# EAGLE library part CON_PINHD-1X8 (library akita)
PIN HEADER
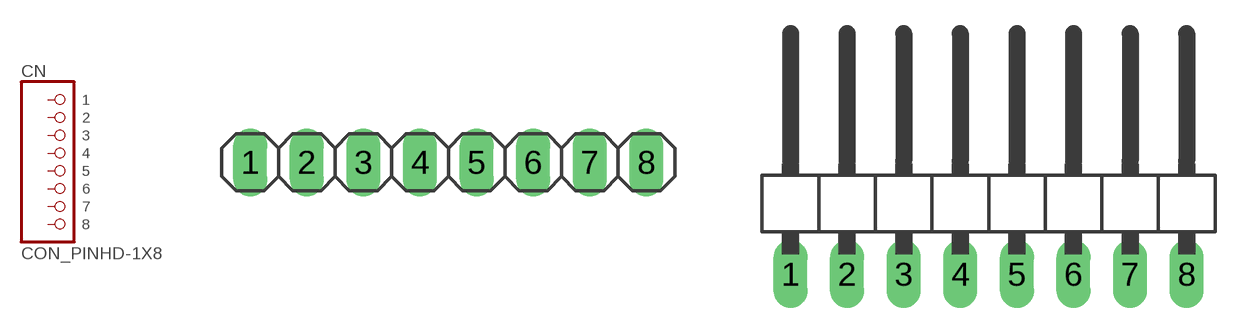
[diagram p11: symbol with the pads of 1X08; footprints 1X08, 1X08/90]

Designator prefix CN

## CON_PINHD-1X8  [1X08]
1  1  pas
2  2  pas
3  3  pas
4  4  pas
5  5  pas
6  6  pas
7  7  pas
8  8  pas

## CON_PINHD-1X8/90  [1X08/90]
Pads as for 1X08

## CON_PINHD-1X8R  [1X08R]
Pads as for 1X08

## CON_PINHD-1X8SMD  [1X08SMD]
P$1  1  pas
P$2  2  pas
P$3  3  pas
P$4  4  pas
P$5  5  pas
P$6  6  pas
P$7  7  pas
P$8  8  pas

## CON_PINHD-1X8FPC05  [CON_8P_FPC05MM]
Pads as for 1X08SMD

## CON_PINHD-1X8RZ  [1X08RZ]
Pads as for 1X08

## CON_PINHD-1X8SMDT  [1X08SMD_THIN]
Pads as for 1X08SMD

## CON_PINHD-1X850MIL  [1X08SMD_50MIL]
Pads as for 1X08SMD

## Footprint 1X08 (pad centres in mm)
PIN HEADER
drill 1.016 long: 1 -8.89,0; 2 -6.35,0; 3 -3.81,0; 4 -1.27,0; 5 1.27,0; 6 3.81,0; 7 6.35,0; 8 8.89,0

## Footprint 1X08/90 (pad centres in mm)
PIN HEADER
drill 1.016 long: 1 -8.89,-3.81; 2 -6.35,-3.81; 3 -3.81,-3.81; 4 -1.27,-3.81; 5 1.27,-3.81; 6 3.81,-3.81; 7 6.35,-3.81; 8 8.89,-3.81

## Footprint 1X08R (pad centres in mm)
drill 0.9 pad 1.651: 1 -8.89,0; 2 -6.35,0; 3 -3.81,0; 4 -1.27,0; 5 1.27,0; 6 3.81,0; 7 6.35,0; 8 8.89,0

## Footprint 1X08SMD (pad centres in mm)
smd 1.524 x 1.524: P$1 -8.89,0; P$2 -6.35,0; P$3 -3.81,0; P$4 -1.27,0; P$5 1.27,0; P$6 3.81,0; P$7 6.35,0; P$8 8.89,0

## Footprint CON_8P_FPC05MM (pad centres in mm)
Molex FFC 0.5mm 8p, 5014610812
smd 0.3 x 1.21: P$1 -1.75,0.25; P$2 -1.25,0.25; P$3 -0.75,0.25; P$4 -0.25,0.25; P$5 0.25,0.25; P$6 0.75,0.25; P$7 1.25,0.25; P$8 1.75,0.25

## Footprint 1X08RZ (pad centres in mm)
1x8, horizontal zigzag
drill 0.9 pad 1.651: 1 -9.09,0; 2 -6.15,0; 3 -4.01,0; 4 -1.07,0; 5 1.07,0; 6 4.01,0; 7 6.15,0; 8 9.09,0

## Footprint 1X08SMD_THIN (pad centres in mm)
smd 1 x 3: P$1 -8.89,0; P$2 -6.35,0; P$3 -3.81,0; P$4 -1.27,0; P$5 1.27,0; P$6 3.81,0; P$7 6.35,0; P$8 8.89,0

## Footprint 1X08SMD_50MIL (pad centres in mm)
1x8 SMD 50mil
smd 0.9 x 2: P$1 -4.445,0; P$2 -3.175,0; P$3 -1.905,0; P$4 -0.635,0; P$5 0.635,0; P$6 1.905,0; P$7 3.175,0; P$8 4.445,0